# Altium footprint library con-amp-mt.PCBLIB: 51 footprints (part 4 of 4)
Each footprint in its own frame and in the unit in brackets; x right, y up, seen from the top. Pads: shape width x height; smd on the part's side, far side on the other; paste and mask are expansions set on the pad; w line width, h text height; cw(c..) or ccw(c..) is an arc to the next point about the centre after c.
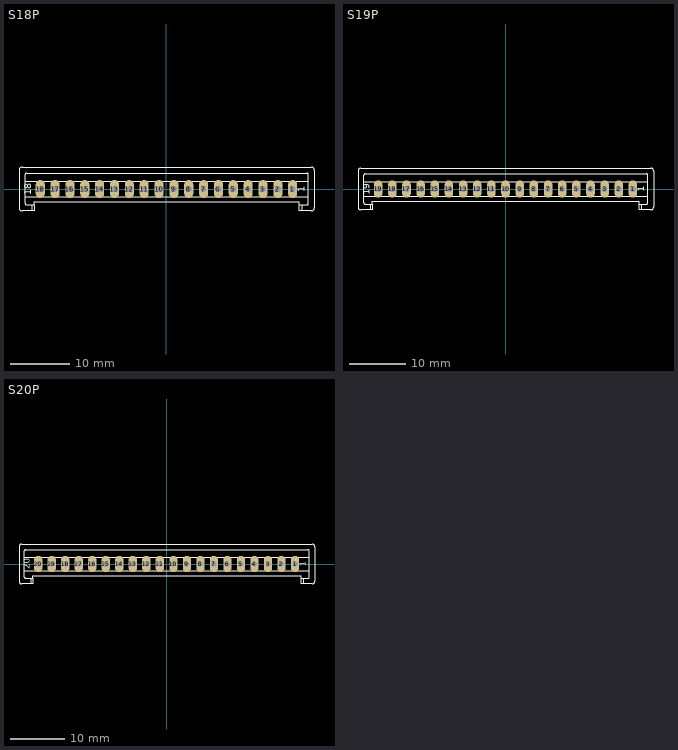
[diagram p3: the footprints below, top view; thin cyan lines are the x and y axes]

## S18P [mil]
pads (18):
  oval 60x120 hole 40: 1(837,0) 2(739,0) 3(640,0) 4(542,0) 5(443,0) 6(345,0) 7(247,0) 8(148,0) 9(50,0) 10(-49.21,0) 11(-147.64,0) 12(-246.06,0) 13(-344.49,0) 14(-442.91,0) 15(-541.34,0) 16(-639.39,0) 17(-738.39,0) 18(-836.39,0)
Top Overlay:
  lines w2: -892.4,-145 -892.4,-105 ; 896,-145 896,-105
  lines w6: -937.4,-50 -937.4,-95 ccw(c-927.4,-95) -927.4,-105 -892.4,-105 -877.4,-105 ; -937.4,-50 941,-50 ; -937.4,-50 -937.4,50 ; -937.4,50 941,50 ; -937.4,50 -937.4,95 cw(c-927.4,95) -927.4,105 931,105 cw(c931,95) 941,95 941,50 ; -877.4,-105 -877.4,-145 -892.4,-145 -957.4,-145 cw(c-957.4,-125) -977.4,-125 -977.4,125 cw(c-957.4,125) -957.4,145 961,145 cw(c961,125) 981,125 981,-125 cw(c961,-125) 961,-145 896,-145 881,-145 881,-105 ; -877.4,-105 -877.4,-85 881,-85 881,-105 ; 881,-105 896,-105 931,-105 ccw(c931,-95) 941,-95 941,-50 ; 941,-50 941,50
  text "1" at 934,-20 h77.5
  text "18" at -879.39,-40 h77.5
Mechanical 16:
  lines w6: -851.38,-15 -821.38,-15 ; -851.38,-15 -851.38,15 ; -851.38,-15 -821.38,15 ; -851.38,15 -821.38,15 ; -851.38,15 -821.38,-15 ; -821.38,-15 -821.38,15 ; -753.39,-15 -723.39,-15 ; -753.39,-15 -753.39,15 ; -753.39,-15 -723.39,15 ; -753.39,15 -723.39,15 ; -753.39,15 -723.39,-15 ; -723.39,-15 -723.39,15 ; -654.37,-15 -624.37,-15 ; -654.37,-15 -654.37,15 ; -654.37,-15 -624.37,15 ; -654.37,15 -624.37,15 ; -654.37,15 -624.37,-15 ; -624.37,-15 -624.37,15 ; -556.38,-15 -526.38,-15 ; -556.38,-15 -556.38,15 ; -556.38,-15 -526.38,15 ; -556.38,15 -526.38,15 ; -556.38,15 -526.38,-15 ; -526.38,-15 -526.38,15 ; -458.39,-15 -428.39,-15 ; -458.39,-15 -458.39,15 ; -458.39,-15 -428.39,15 ; -458.39,15 -428.39,15 ; -458.39,15 -428.39,-15 ; -428.39,-15 -428.39,15 ; -359.37,-15 -329.37,-15 ; -359.37,-15 -359.37,15 ; -359.37,-15 -329.37,15 ; -359.37,15 -329.37,15 ; -359.37,15 -329.37,-15 ; -329.37,-15 -329.37,15 ; -261.38,-15 -231.38,-15 ; -261.38,-15 -261.38,15 ; -261.38,-15 -231.38,15 ; -261.38,15 -231.38,15 ; -261.38,15 -231.38,-15 ; -231.38,-15 -231.38,15 ; -162.4,-15 -132.4,-15 ; -162.4,-15 -162.4,15 ; -162.4,-15 -132.4,15 ; -162.4,15 -132.4,15 ; -162.4,15 -132.4,-15 ; -132.4,-15 -132.4,15 ; -64.37,-15 -34.37,-15 ; -64.37,-15 -64.37,15 ; -64.37,-15 -34.37,15 ; -64.37,15 -34.37,15 ; -64.37,15 -34.37,-15 ; -34.37,-15 -34.37,15 ; 34,-15 34,15 ; 34,-15 64,15 ; 34,-15 64,-15 ; 34,15 64,15 ; 34,15 64,-15 ; 64,-15 64,15 ; 132,-15 162,-15 ; 132,-15 132,15 ; 132,-15 162,15 ; 132,15 162,15 ; 132,15 162,-15 ; 162,-15 162,15 ; 231,-15 261,-15 ; 231,-15 231,15 ; 231,-15 261,15 ; 231,15 261,15 ; 231,15 261,-15 ; 261,-15 261,15 ; 329,-15 359,15 ; 329,-15 329,15 ; 329,-15 359,-15 ; 329,15 359,-15 ; 329,15 359,15 ; 359,-15 359,15 ; 429,-15 459,15 ; 429,-15 459,-15 ; 429,-15 429,15 ; 429,15 459,-15 ; 429,15 459,15 ; 459,-15 459,15 ; 527,-15 527,15 ; 527,-15 557,-15 ; 527,-15 557,15 ; 527,15 557,15 ; 527,15 557,-15 ; 557,-15 557,15 ; 626,-15 656,-15 ; 626,-15 626,15 ; 626,-15 656,15 ; 626,15 656,15 ; 626,15 656,-15 ; 656,-15 656,15 ; 724,-15 724,15 ; 724,-15 754,15 ; 724,-15 754,-15 ; 724,15 754,15 ; 724,15 754,-15 ; 754,-15 754,15 ; 822,-15 822,15 ; 822,-15 852,15 ; 822,-15 852,-15 ; 822,15 852,15 ; 822,15 852,-15 ; 852,-15 852,15

## S19P [mil]
pads (19):
  oval 60x120 hole 40: 1(886,0) 2(788,0) 3(689,0) 4(591,0) 5(493,0) 6(394,0) 7(296,0) 8(197,0) 9(99,0) 10(0,0) 11(-98.43,0) 12(-196.85,0) 13(-295.28,0) 14(-393.7,0) 15(-492.13,0) 16(-590.55,0) 17(-688.98,0) 18(-787.4,0) 19(-885.83,0)
Top Overlay:
  lines w2: -941.18,-145 -941.18,-105 ; 945,-145 945,-105
  lines w6: -986.18,-50 -986.18,-95 ccw(c-976.18,-95) -976.18,-105 -941.18,-105 -926.18,-105 ; -986.18,-50 990,-50 ; -986.18,-50 -986.18,50 ; -986.18,50 990,50 ; -986.18,50 -986.18,95 cw(c-976.18,95) -976.18,105 980,105 cw(c980,95) 990,95 990,50 ; -926.18,-105 -926.18,-145 -941.18,-145 -1006.18,-145 cw(c-1006.18,-125) -1026.18,-125 -1026.18,125 cw(c-1006.18,125) -1006.18,145 1010,145 cw(c1010,125) 1030,125 1030,-125 cw(c1010,-125) 1010,-145 945,-145 930,-145 930,-105 ; -926.18,-105 -926.18,-85 930,-85 930,-105 ; 930,-105 945,-105 980,-105 ccw(c980,-95) 990,-95 990,-50 ; 990,-50 990,50
  text "1" at 983,-20 h77.5
  text "19" at -928.17,-40 h77.5
Mechanical 16:
  lines w6: -901.18,-15 -871.18,-15 ; -901.18,-15 -901.18,15 ; -901.18,-15 -871.18,15 ; -901.18,15 -871.18,-15 ; -901.18,15 -871.18,15 ; -871.18,-15 -871.18,15 ; -802.17,-15 -772.17,-15 ; -802.17,-15 -802.17,15 ; -802.17,-15 -772.17,15 ; -802.17,15 -772.17,-15 ; -802.17,15 -772.17,15 ; -772.17,-15 -772.17,15 ; -704.17,-15 -674.17,-15 ; -704.17,-15 -704.17,15 ; -704.17,-15 -674.17,15 ; -704.17,15 -674.17,-15 ; -704.17,15 -674.17,15 ; -674.17,-15 -674.17,15 ; -605.16,-15 -575.16,-15 ; -605.16,-15 -605.16,15 ; -605.16,-15 -575.16,15 ; -605.16,15 -575.16,-15 ; -605.16,15 -575.16,15 ; -575.16,-15 -575.16,15 ; -507.17,-15 -477.17,-15 ; -507.17,-15 -507.17,15 ; -507.17,-15 -477.17,15 ; -507.17,15 -477.17,-15 ; -507.17,15 -477.17,15 ; -477.17,-15 -477.17,15 ; -409.17,-15 -379.17,-15 ; -409.17,-15 -409.17,15 ; -409.17,-15 -379.17,15 ; -409.17,15 -379.17,-15 ; -409.17,15 -379.17,15 ; -379.17,-15 -379.17,15 ; -310.16,-15 -280.16,-15 ; -310.16,-15 -310.16,15 ; -310.16,-15 -280.16,15 ; -310.16,15 -280.16,-15 ; -310.16,15 -280.16,15 ; -280.16,-15 -280.16,15 ; -212.17,-15 -182.17,-15 ; -212.17,-15 -212.17,15 ; -212.17,-15 -182.17,15 ; -212.17,15 -182.17,-15 ; -212.17,15 -182.17,15 ; -182.17,-15 -182.17,15 ; -113.19,-15 -83.19,-15 ; -113.19,-15 -113.19,15 ; -113.19,-15 -83.19,15 ; -113.19,15 -83.19,-15 ; -113.19,15 -83.19,15 ; -83.19,-15 -83.19,15 ; -15.16,-15 15,-15 ; -15.16,-15 -15.16,15 ; -15.16,-15 15,15 ; -15.16,15 15,15 ; -15.16,15 15,-15 ; 15,-15 15,15 ; 83,-15 83,15 ; 83,-15 113,15 ; 83,-15 113,-15 ; 83,15 113,15 ; 83,15 113,-15 ; 113,-15 113,15 ; 181,-15 211,-15 ; 181,-15 181,15 ; 181,-15 211,15 ; 181,15 211,15 ; 181,15 211,-15 ; 211,-15 211,15 ; 280,-15 310,-15 ; 280,-15 280,15 ; 280,-15 310,15 ; 280,15 310,15 ; 280,15 310,-15 ; 310,-15 310,15 ; 378,-15 408,15 ; 378,-15 378,15 ; 378,-15 408,-15 ; 378,15 408,-15 ; 378,15 408,15 ; 408,-15 408,15 ; 478,-15 508,15 ; 478,-15 508,-15 ; 478,-15 478,15 ; 478,15 508,-15 ; 478,15 508,15 ; 508,-15 508,15 ; 576,-15 576,15 ; 576,-15 606,-15 ; 576,-15 606,15 ; 576,15 606,15 ; 576,15 606,-15 ; 606,-15 606,15 ; 675,-15 705,-15 ; 675,-15 675,15 ; 675,-15 705,15 ; 675,15 705,15 ; 675,15 705,-15 ; 705,-15 705,15 ; 773,-15 773,15 ; 773,-15 803,15 ; 773,-15 803,-15 ; 773,15 803,15 ; 773,15 803,-15 ; 803,-15 803,15 ; 871,-15 871,15 ; 871,-15 901,15 ; 871,-15 901,-15 ; 871,15 901,15 ; 871,15 901,-15 ; 901,-15 901,15

## S20P [mil]
pads (20):
  oval 60x120 hole 40: 1(936,0) 2(837,0) 3(739,0) 4(640,0) 5(542,0) 6(443,0) 7(345,0) 8(247,0) 9(148,0) 10(50,0) 11(-49.21,0) 12(-147.64,0) 13(-246.06,0) 14(-344.49,0) 15(-442.91,0) 16(-541.34,0) 17(-639.76,0) 18(-738.19,0) 19(-836.61,0) 20(-935.04,0)
Top Overlay:
  lines w2: -989.96,-145 -989.96,-105 ; 995,-145 995,-105
  lines w6: -1034.96,-50 -1034.96,-95 ccw(c-1024.96,-95) -1024.96,-105 -989.96,-105 -974.96,-105 ; -1034.96,-50 1040,-50 ; -1034.96,-50 -1034.96,50 ; -1034.96,50 1040,50 ; -1034.96,50 -1034.96,95 cw(c-1024.96,95) -1024.96,105 1030,105 cw(c1030,95) 1040,95 1040,50 ; -974.96,-105 -974.96,-145 -989.96,-145 -1054.96,-145 cw(c-1054.96,-125) -1074.96,-125 -1074.96,125 cw(c-1054.96,125) -1054.96,145 1060,145 cw(c1060,125) 1080,125 1080,-125 cw(c1060,-125) 1060,-145 995,-145 980,-145 980,-105 ; -974.96,-105 -974.96,-85 980,-85 980,-105 ; 980,-105 995,-105 1030,-105 ccw(c1030,-95) 1040,-95 1040,-50 ; 1040,-50 1040,50
  text "1" at 1033,-20 h77.5
  text "20" at -976.96,-40 h77.5
Mechanical 16:
  lines w6: -949.96,-15 -949.96,15 ; -949.96,-15 -919.96,-15 ; -949.96,-15 -919.96,15 ; -949.96,15 -919.96,-15 ; -949.96,15 -919.96,15 ; -919.96,-15 -919.96,15 ; -851.97,-15 -851.97,15 ; -851.97,-15 -821.97,-15 ; -851.97,-15 -821.97,15 ; -851.97,15 -821.97,-15 ; -851.97,15 -821.97,15 ; -821.97,-15 -821.97,15 ; -752.95,-15 -752.95,15 ; -752.95,-15 -722.95,-15 ; -752.95,-15 -722.95,15 ; -752.95,15 -722.95,-15 ; -752.95,15 -722.95,15 ; -722.95,-15 -722.95,15 ; -654.96,-15 -654.96,15 ; -654.96,-15 -624.96,-15 ; -654.96,-15 -624.96,15 ; -654.96,15 -624.96,-15 ; -654.96,15 -624.96,15 ; -624.96,-15 -624.96,15 ; -555.94,-15 -555.94,15 ; -555.94,-15 -525.94,-15 ; -555.94,-15 -525.94,15 ; -555.94,15 -525.94,-15 ; -555.94,15 -525.94,15 ; -525.94,-15 -525.94,15 ; -457.95,-15 -457.95,15 ; -457.95,-15 -427.95,-15 ; -457.95,-15 -427.95,15 ; -457.95,15 -427.95,-15 ; -457.95,15 -427.95,15 ; -427.95,-15 -427.95,15 ; -359.96,-15 -359.96,15 ; -359.96,-15 -329.96,-15 ; -359.96,-15 -329.96,15 ; -359.96,15 -329.96,-15 ; -359.96,15 -329.96,15 ; -329.96,-15 -329.96,15 ; -260.94,-15 -260.94,15 ; -260.94,-15 -230.94,-15 ; -260.94,-15 -230.94,15 ; -260.94,15 -230.94,-15 ; -260.94,15 -230.94,15 ; -230.94,-15 -230.94,15 ; -162.95,-15 -162.95,15 ; -162.95,-15 -132.95,-15 ; -162.95,-15 -132.95,15 ; -162.95,15 -132.95,-15 ; -162.95,15 -132.95,15 ; -132.95,-15 -132.95,15 ; -63.98,-15 -63.98,15 ; -63.98,-15 -33.98,-15 ; -63.98,-15 -33.98,15 ; -63.98,15 -33.98,-15 ; -63.98,15 -33.98,15 ; -33.98,-15 -33.98,15 ; 35,-15 65,-15 ; 35,-15 35,15 ; 35,-15 65,15 ; 35,15 65,15 ; 35,15 65,-15 ; 65,-15 65,15 ; 133,-15 133,15 ; 133,-15 163,15 ; 133,-15 163,-15 ; 133,15 163,15 ; 133,15 163,-15 ; 163,-15 163,15 ; 231,-15 261,-15 ; 231,-15 231,15 ; 231,-15 261,15 ; 231,15 261,15 ; 231,15 261,-15 ; 261,-15 261,15 ; 330,-15 360,-15 ; 330,-15 330,15 ; 330,-15 360,15 ; 330,15 360,15 ; 330,15 360,-15 ; 360,-15 360,15 ; 428,-15 458,15 ; 428,-15 428,15 ; 428,-15 458,-15 ; 428,15 458,-15 ; 428,15 458,15 ; 458,-15 458,15 ; 528,-15 558,15 ; 528,-15 558,-15 ; 528,-15 528,15 ; 528,15 558,-15 ; 528,15 558,15 ; 558,-15 558,15 ; 626,-15 626,15 ; 626,-15 656,-15 ; 626,-15 656,15 ; 626,15 656,15 ; 626,15 656,-15 ; 656,-15 656,15 ; 725,-15 755,-15 ; 725,-15 725,15 ; 725,-15 755,15 ; 725,15 755,15 ; 725,15 755,-15 ; 755,-15 755,15 ; 823,-15 823,15 ; 823,-15 853,15 ; 823,-15 853,-15 ; 823,15 853,15 ; 823,15 853,-15 ; 853,-15 853,15 ; 921,-15 921,15 ; 921,-15 951,15 ; 921,-15 951,-15 ; 921,15 951,15 ; 921,15 951,-15 ; 951,-15 951,15